# Altium footprint library MyLibrary.PcbLib: 365 footprints (part 13 of 23)
Each footprint in its own frame and in the unit in brackets; x right, y up, seen from the top. Pads: shape width x height; smd on the part's side, far side on the other; paste and mask are expansions set on the pad; w line width, h text height; cw(c..) or ccw(c..) is an arc to the next point about the centre after c.
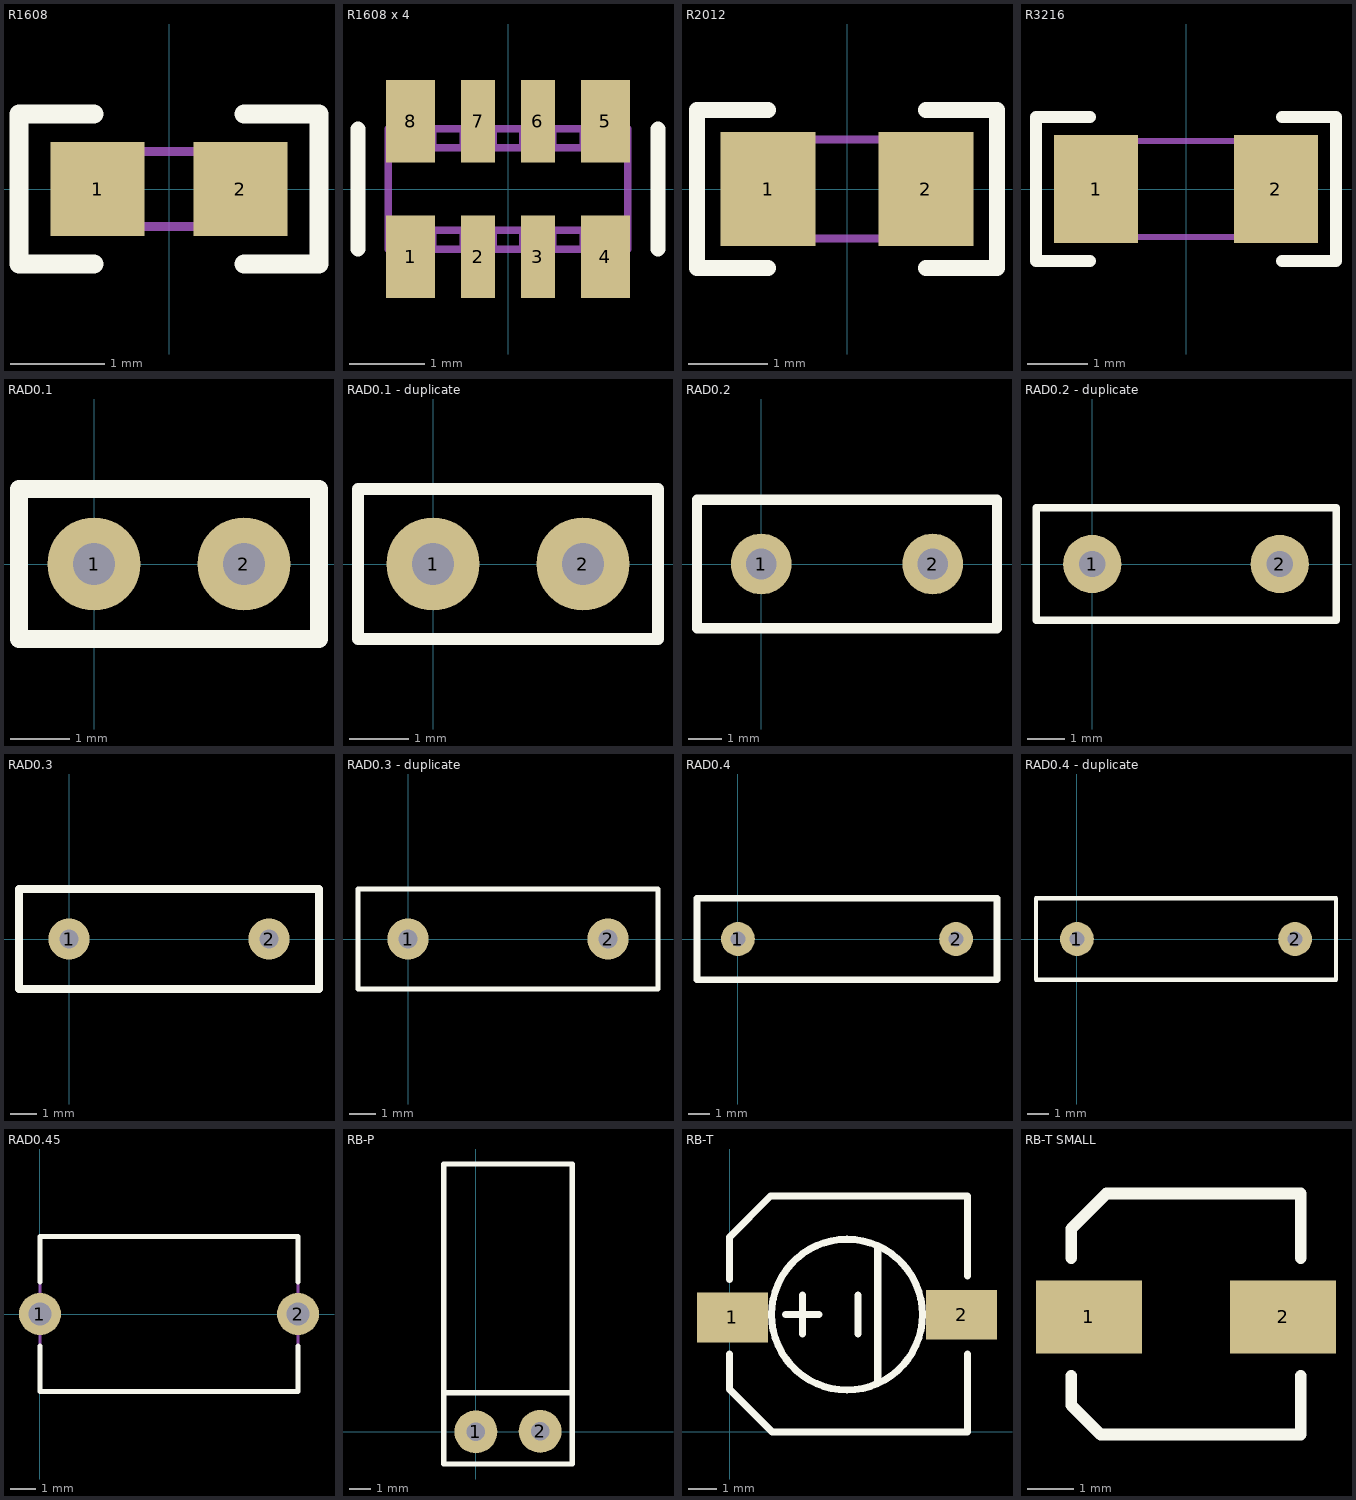
[diagram p12: the footprints below, top view; thin cyan lines are the x and y axes]

## R1608 [mm]
pads (2):
  rect 1x1 smd: 1(-0.762,0) 2(0.762,0)
Top Overlay:
  lines w0.2: -0.8,-0.8 -1.6,-0.8 -1.6,0.8 -0.8,0.8 ; 0.8,-0.8 1.6,-0.8 1.6,0.8 0.8,0.8
Mechanical 1:
  lines w0.1: -0.5,-0.4 -0.5,0.4 ; 0.5,-0.4 0.5,0.4 ; -0.8,-0.4 -0.8,0.4 0.8,0.4 0.8,-0.4 -0.8,-0.4

## R1608 x 4 [mm]
pads (8):
  rect 0.65x1.1 smd: 1(-1.3,-0.9) 4(1.3,-0.9) 5(1.3,0.9) 8(-1.3,0.9)
  rect 0.45x1.1 smd: 2(-0.4,-0.9) 3(0.4,-0.9) 6(0.4,0.9) 7(-0.4,0.9)
Top Overlay:
  lines w0.2: -2,-0.8 -2,0.8 ; 2,-0.8 2,0.8
Mechanical 1:
  lines w0.1: -1.6,-0.55 1.6,-0.55 ; -1.6,0.55 1.6,0.55 ; -1,-0.8 -1,-0.55 ; -1,0.55 -1,0.8 ; -0.6,-0.8 -0.6,-0.55 ; -0.6,0.55 -0.6,0.8 ; -0.2,-0.8 -0.2,-0.55 ; -0.2,0.55 -0.2,0.8 ; 0.2,-0.8 0.2,-0.55 ; 0.2,0.55 0.2,0.8 ; 0.6,-0.8 0.6,-0.55 ; 0.6,0.55 0.6,0.8 ; 1,-0.8 1,-0.55 ; 1,0.55 1,0.8 ; -1.6,-0.8 1.6,-0.8 1.6,0.8 -1.6,0.8 -1.6,-0.8

## R2012 [mm]
pads (2):
  rect 1.2x1.45 smd: 1(-1,0) 2(1,0)
Top Overlay:
  lines w0.2: -1,-1 -1.9,-1 -1.9,1 -1,1 ; 1,-1 1.9,-1 1.9,1 1,1
Mechanical 1:
  lines w0.1: -0.6,-0.625 -0.6,0.625 ; 0.6,-0.625 0.6,0.625 ; -1,-0.625 -1,0.625 1,0.625 1,-0.625 -1,-0.625

## R3216 [mm]
pads (2):
  rect 1.4x1.8 smd: 1(-1.5,0) 2(1.5,0)
Top Overlay:
  lines w0.2: -1.6,-1.2 -2.5,-1.2 -2.5,1.2 -1.6,1.2 ; 1.6,-1.2 2.5,-1.2 2.5,1.2 1.6,1.2
Mechanical 1:
  lines w0.1: -1.1,-0.8 -1.1,0.8 ; 1.1,-0.8 1.1,0.8 ; -1.6,-0.8 1.6,-0.8 1.6,0.8 -1.6,0.8 -1.6,-0.8

## RAD0.1 [mil]
pads (2):
  round 62 hole 28: 1(0,0) 2(100,0)
Top Overlay:
  lines w12: -50,-50 150,-50 150,50 -50,50 -50,-50

## RAD0.1 - duplicate [mil]
pads (2):
  round 62 hole 28: 1(0,0) 2(100,0)
Top Overlay:
  lines w8: -50,-50 150,-50 150,50 -50,50 -50,-50

## RAD0.2 [mm]
pads (2):
  round 1.8 hole 0.911: 1(0,0) 2(5.08,0)
Top Overlay:
  lines w0.305: -1.905,-1.905 -1.905,1.905 6.985,1.905 6.985,-1.905 -1.905,-1.905

## RAD0.2 - duplicate [mil]
pads (2):
  round 62 hole 28: 1(0,0) 2(200,0)
Top Overlay:
  lines w8: -60,-60 -60,60 260,60 260,-60 -60,-60

## RAD0.3 [mil]
pads (2):
  round 62 hole 28: 1(0,0) 2(300,0)
Top Overlay:
  lines w12: -75,-75 -75,75 375,75 375,-75 -75,-75

## RAD0.3 - duplicate [mil]
pads (2):
  round 62 hole 28: 1(0,0) 2(300,0)
Top Overlay:
  lines w8: -75,-75 -75,75 375,75 375,-75 -75,-75

## RAD0.4 [mil]
pads (2):
  round 62 hole 28: 1(0,0) 2(400,0)
Top Overlay:
  lines w12: -75,-75 -75,75 475,75 475,-75 -75,-75

## RAD0.4 - duplicate [mil]
pads (2):
  round 62 hole 28: 1(0,0) 2(400,0)
Top Overlay:
  lines w8: -75,-75 475,-75 475,75 -75,75 -75,-75

## RAD0.45 [mil]
pads (2):
  round 65 hole 35.43: 1(0,0) 2(400,0)
Top Overlay:
  lines w8: 0,-50 0,-120 400,-120 400,-50 ; 0,50 0,120 400,120 400,50
Mechanical 1:
  lines w4: 0,-120 400,-120 400,120 0,120 0,-120

## RB-P [mil]
pads (2):
  round 80 hole 35: 1(0,0) 2(120,1)
Top Overlay:
  lines w10: -58,73 178,73 ; -60,-60 180,-60 180,500 -60,500 -60,-60
Multi-Layer:
  text "+" at -111,-21 h40

## RB-T [mil]
pads (2):
  rect 100x70 smd: 1(3.94,161.42) 2(326.77,165.35)
Top Overlay:
  circle w10: c165.35,165.35 r106.3
  lines w10: 0,110 0,60 60,0 335,0 335,110 ; 0,215 0,275 57.5,332.5 335,332.5 335,220 ; 78.74,165.35 125.98,165.35 ; 102.36,137.8 102.36,192.91 ; 181.1,137.8 181.1,192.91 ; 208.66,70.87 208.66,259.84

## RB-T SMALL [mil]
pads (2):
  rect 90x62 smd: 1(80,165) 2(245,165)
Top Overlay:
  lines w10: 65,115 65,90 90,65 115,65 260,65 260,115 ; 65,215 65,240 95,270 110,270 260,270 260,215